# EAGLE library part DSPIC33FJ64MC804-I_ML (library dsPIC33FJ64MC804-I_ML)
MCU&DSP 64K Flash 16K RAM DMA QFN44 Source: Datasheet <http://ww1.microchip.com/downloads/en/DeviceDoc/70291G.pdf>
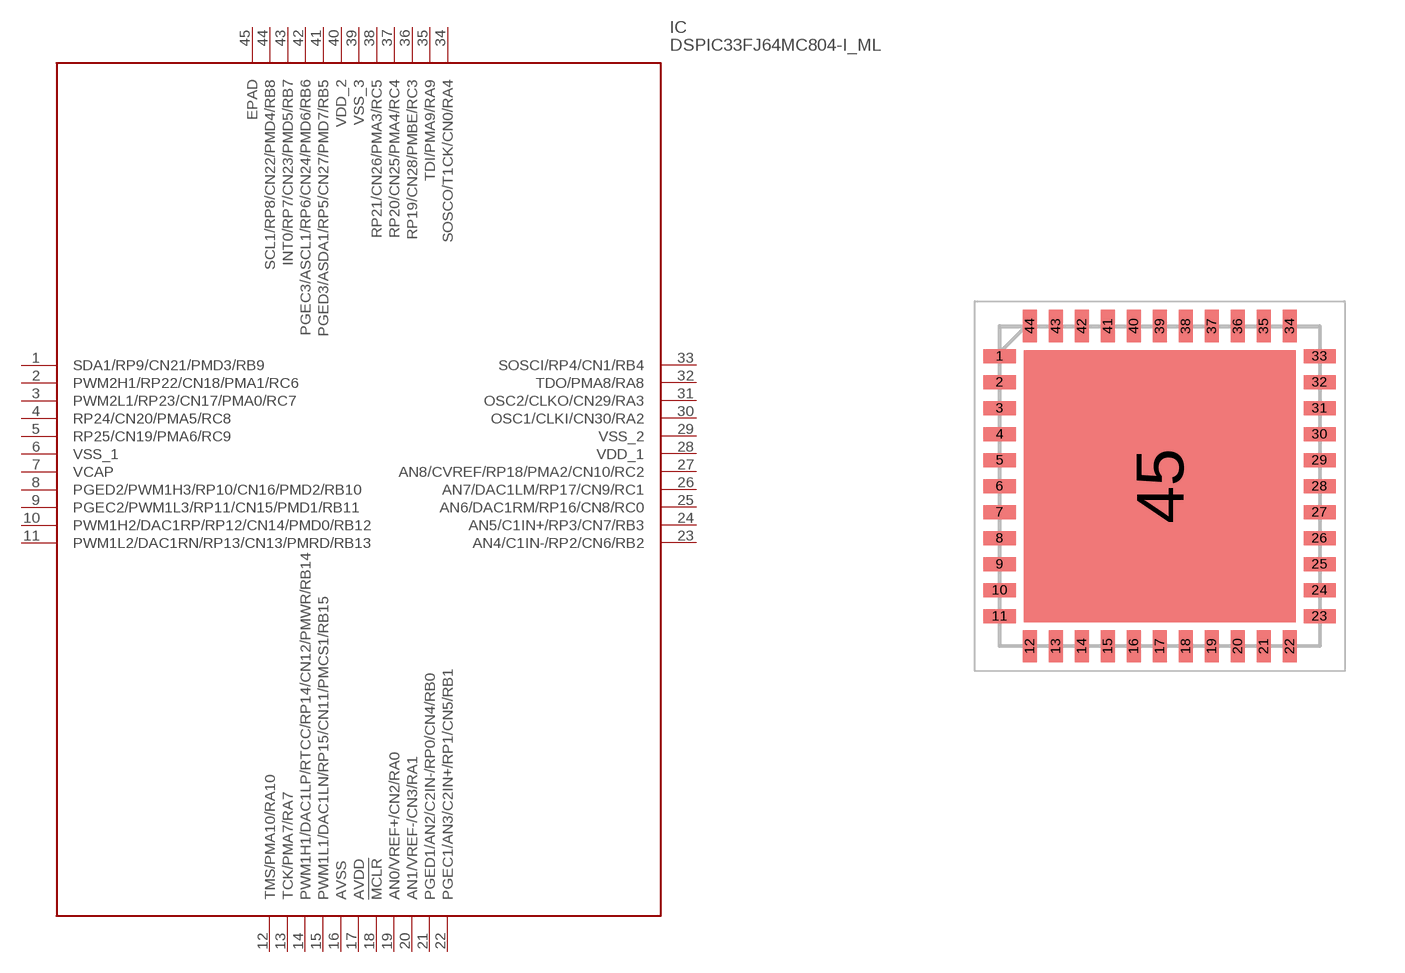
[diagram p0: symbol with the pads of QFN65P800X800X100-45N; footprint QFN65P800X800X100-45N]

Designator prefix IC

## DSPIC33FJ64MC804-I_ML (Description: MCU&DSP 64K Flash 16K RAM DMA QFN44; Height: 1mm; Manufacturer_Name: Microchip; Manufacturer_Part_Number: dsPIC33FJ64MC804-I/ML; Mouser_Part_Number: 579-DSPIC364MC804IML; Mouser_Price-Stock: https://www.mouser.co.uk/ProductDetail/Microchip-Technology/DSPIC33FJ64MC804-I-ML?qs=nMCt4TBfEwoppiYgos1DJw%3D%3D)  [QFN65P800X800X100-45N]
1  SDA1/RP9/CN21/PMD3/RB9
2  PWM2H1/RP22/CN18/PMA1/RC6
3  PWM2L1/RP23/CN17/PMA0/RC7
4  RP24/CN20/PMA5/RC8
5  RP25/CN19/PMA6/RC9
6  VSS_1
7  VCAP
8  PGED2/PWM1H3/RP10/CN16/PMD2/RB10
9  PGEC2/PWM1L3/RP11/CN15/PMD1/RB11
10  PWM1H2/DAC1RP/RP12/CN14/PMD0/RB12
11  PWM1L2/DAC1RN/RP13/CN13/PMRD/RB13
12  TMS/PMA10/RA10
13  TCK/PMA7/RA7
14  PWM1H1/DAC1LP/RTCC/RP14/CN12/PMWR/RB14
15  PWM1L1/DAC1LN/RP15/CN11/PMCS1/RB15
16  AVSS
17  AVDD
18  !MCLR
19  AN0/VREF+/CN2/RA0
20  AN1/VREF-/CN3/RA1
21  PGED1/AN2/C2IN-/RP0/CN4/RB0
22  PGEC1/AN3/C2IN+/RP1/CN5/RB1
23  AN4/C1IN-/RP2/CN6/RB2
24  AN5/C1IN+/RP3/CN7/RB3
25  AN6/DAC1RM/RP16/CN8/RC0
26  AN7/DAC1LM/RP17/CN9/RC1
27  AN8/CVREF/RP18/PMA2/CN10/RC2
28  VDD_1
29  VSS_2
30  OSC1/CLKI/CN30/RA2
31  OSC2/CLKO/CN29/RA3
32  TDO/PMA8/RA8
33  SOSCI/RP4/CN1/RB4
34  SOSCO/T1CK/CN0/RA4
35  TDI/PMA9/RA9
36  RP19/CN28/PMBE/RC3
37  RP20/CN25/PMA4/RC4
38  RP21/CN26/PMA3/RC5
39  VSS_3
40  VDD_2
41  PGED3/ASDA1/RP5/CN27/PMD7/RB5
42  PGEC3/ASCL1/RP6/CN24/PMD6/RB6
43  INT0/RP7/CN23/PMD5/RB7
44  SCL1/RP8/CN22/PMD4/RB8
45  EPAD

## Footprint QFN65P800X800X100-45N (pad centres in mm)
(ML) 44-Lead(QFN)
smd 0.8 x 0.35: 1 -4,3.25; 2 -4,2.6; 3 -4,1.95; 4 -4,1.3; 5 -4,0.65; 6 -4,0; 7 -4,-0.65; 8 -4,-1.3; 9 -4,-1.95; 10 -4,-2.6; 11 -4,-3.25; 23 4,-3.25; 24 4,-2.6; 25 4,-1.95; 26 4,-1.3; 27 4,-0.65; 28 4,0; 29 4,0.65; 30 4,1.3; 31 4,1.95; 32 4,2.6; 33 4,3.25
smd 0.35 x 0.8: 12 -3.25,-4; 13 -2.6,-4; 14 -1.95,-4; 15 -1.3,-4; 16 -0.65,-4; 17 0,-4; 18 0.65,-4; 19 1.3,-4; 20 1.95,-4; 21 2.6,-4; 22 3.25,-4; 34 3.25,4; 35 2.6,4; 36 1.95,4; 37 1.3,4; 38 0.65,4; 39 0,4; 40 -0.65,4; 41 -1.3,4; 42 -1.95,4; 43 -2.6,4; 44 -3.25,4
smd 6.8 x 6.8: 45 0,0